# Altium schematic symbol library PNP.Schlib: 4 symbols
Pins are listed as number, name and electrical type; pins without a type are passive.

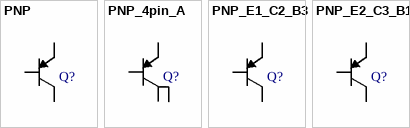
[diagram p0: symbols PNP to PNP_E2_C3_B1]

## PNP
designator Q?
PNP Transistor
pins: 1 B, 2 C, 3 E

## PNP_4pin_A
designator Q?
PNP Transistor
pins: 1 B, 2 C, 3 E, 4 C

## PNP_E1_C2_B3
designator Q?
PNP Transistor
pins: 1 E, 2 C, 3 B

## PNP_E2_C3_B1
designator Q?
PNP Transistor
pins: 1 B, 2 E, 3 C